# Altium footprint library QFN_Rect_50P_Side_M.PcbLib: 1 footprints
Each footprint in its own frame and in the unit in brackets; x right, y up, seen from the top. Pads: shape width x height; smd on the part's side, far side on the other; paste and mask are expansions set on the pad; w line width, h text height; cw(c..) or ccw(c..) is an arc to the next point about the centre after c.
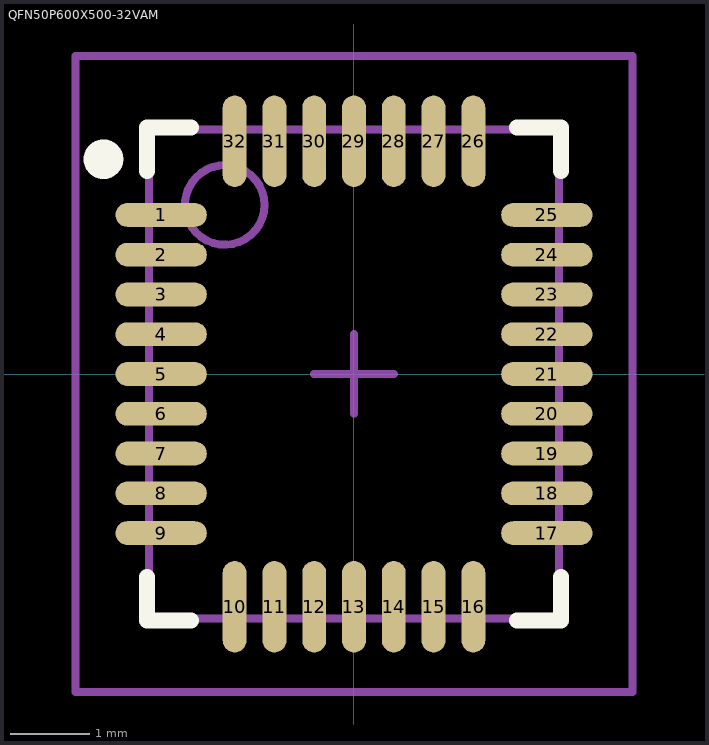
[diagram p0: the footprint, top view; thin cyan lines are the x and y axes]

## QFN50P600X500-32VAM [mm] "QFN, 32-Leads, Body 6 x 5 mm, Pitch 0.5mm, IPC Low Density"
height 0.95
pads (32):
  oval 1.15x0.3 smd: 1(-2.425,2) 2(-2.425,1.5) 3(-2.425,1) 4(-2.425,0.5) 5(-2.425,0) 6(-2.425,-0.5) 7(-2.425,-1) 8(-2.425,-1.5) 9(-2.425,-2) 17(2.425,-2) 18(2.425,-1.5) 19(2.425,-1) 20(2.425,-0.5) 21(2.425,0) 22(2.425,0.5) 23(2.425,1) 24(2.425,1.5) 25(2.425,2)
  oval 0.3x1.15 smd: 10(-1.5,-2.925) 11(-1,-2.925) 12(-0.5,-2.925) 13(0,-2.925) 14(0.5,-2.925) 15(1,-2.925) 16(1.5,-2.925) 26(1.5,2.925) 27(1,2.925) 28(0.5,2.925) 29(0,2.925) 30(-0.5,2.925) 31(-1,2.925) 32(-1.5,2.925)
Top Overlay:
  circle w0.25: c-3.15,2.7 r0.125
  lines w0.2: -2.6,-2.55 -2.6,-3.1 -2.05,-3.1 ; -2.6,2.55 -2.6,3.1 -2.05,3.1 ; 2.05,-3.1 2.6,-3.1 2.6,-2.55 ; 2.05,3.1 2.6,3.1 2.6,2.55
Mechanical 13:
  circle w0.1: c-1.625,2.125 r0.5
  lines w0.1: -2.575,-3.075 -2.575,3.075 2.575,3.075 2.575,-3.075 -2.575,-3.075
Mechanical 15:
  lines w0.1: -0.5,0 0.5,0 ; 0,-0.5 0,0.5 ; -3.5,-4 -3.5,4 3.5,4 3.5,-4 -3.5,-4
3D body: height 0.95, standoff 0, extent -2.575,-3.075 2.575,3.075